# Altium footprint library SmartHalo_Footprints.PcbLib: 114 footprints (part 5 of 8)
Each footprint in its own frame and in the unit in brackets; x right, y up, seen from the top. Pads: shape width x height; smd on the part's side, far side on the other; paste and mask are expansions set on the pad; w line width, h text height; cw(c..) or ccw(c..) is an arc to the next point about the centre after c.
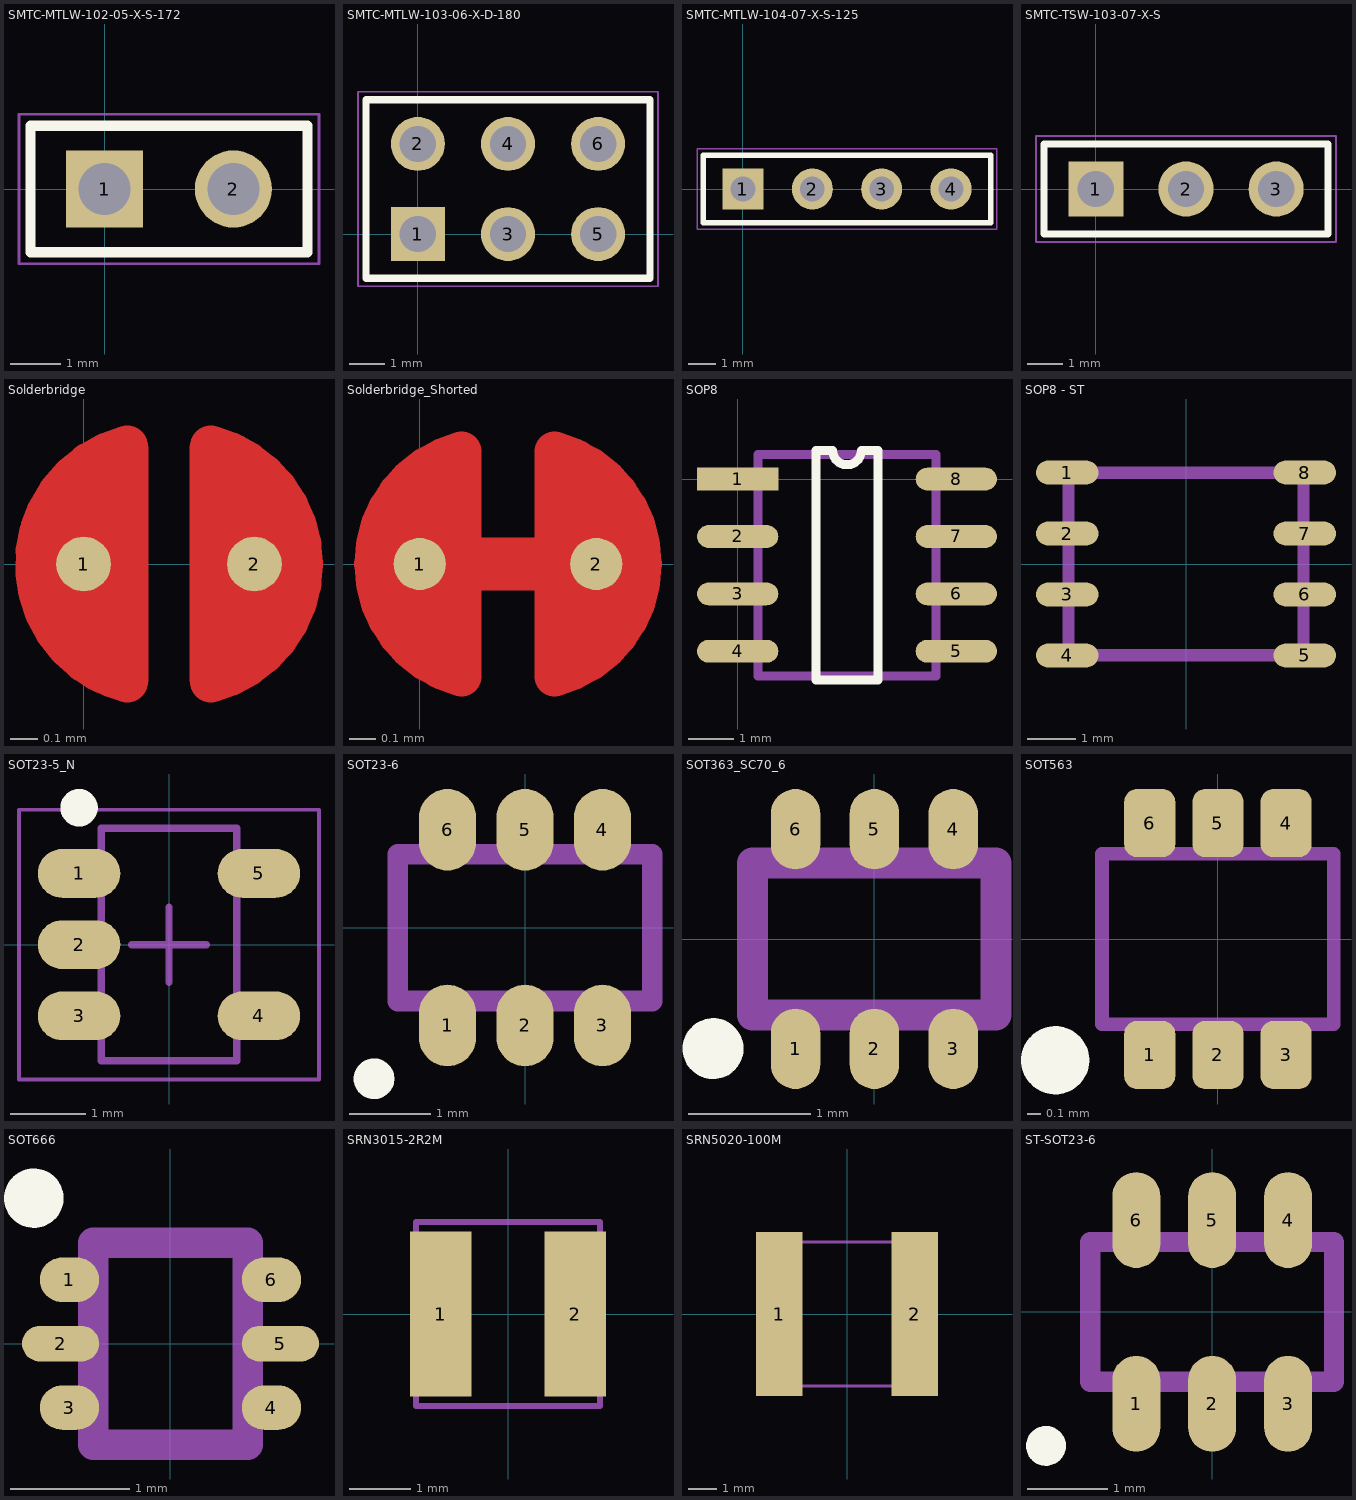
[diagram p4: the footprints below, top view; thin cyan lines are the x and y axes]

## SMTC-MTLW-102-05-X-S-172 [mm] "Terminal Assembly, 1x2 Pins, Vertical, 2.54mm Pitch, Male"
pads (2):
  rect 1.52x1.52 hole 1.02: 1(0,0)
  round 1.52 hole 1.02: 2(2.54,0)
Top Overlay:
  lines w0.2: -1.46,-1.245 -1.46,1.245 4,1.245 4,-1.245 -1.46,-1.245
3D Top:
  lines w0.1: -1.46,1.245 -1.46,-1.245 4,-1.245 4,1.245 -1.46,1.245
Courtyard Top:
  lines w0.05: -1.685,-1.47 -1.685,1.47 4.225,1.47 4.225,-1.47 -1.685,-1.47

## SMTC-MTLW-103-06-X-D-180 [mm] "Terminal Assembly, 2x3 Pins, Vertical, 2.54mm Pitch, Male"
pads (6):
  rect 1.52x1.52 hole 1.02: 1(0,0)
  round 1.52 hole 1.02: 2(0,2.54) 3(2.54,0) 4(2.54,2.54) 5(5.08,0) 6(5.08,2.54)
Top Overlay:
  lines w0.2: -1.46,-1.245 -1.46,3.785 6.54,3.785 6.54,-1.245 -1.46,-1.245
3D Top:
  lines w0.1: -1.46,-1.245 6.54,-1.245 6.54,3.785 -1.46,3.785 -1.46,-1.245
Courtyard Top:
  lines w0.05: -1.685,-1.47 6.765,-1.47 6.765,4.01 -1.685,4.01 -1.685,-1.47

## SMTC-MTLW-104-07-X-S-125 [mm] "Terminal Assembly, 1x4 Pins, Vertical, 2.54mm Pitch, Male"
height 4.826
pads (4):
  rect 1.5x1.5 hole 0.9: 1(0,0)
  round 1.5 hole 0.9: 2(2.54,0) 3(5.08,0) 4(7.62,0)
Top Overlay:
  lines w0.2: -1.46,-1.245 -1.46,1.245 9.08,1.245 9.08,-1.245 -1.46,-1.245
3D Top:
  lines w0.1: -1.46,-1.245 -1.46,1.245 9.08,1.245 9.08,-1.245 -1.46,-1.245
Courtyard Top:
  lines w0.05: -1.685,-1.47 -1.685,1.47 9.305,1.47 9.305,-1.47 -1.685,-1.47
3D body: height 4.7, standoff -6.22, extent -1.27,-1.244 8.89,1.245

## SMTC-TSW-103-07-X-S [mm] ".025 SQ Post Terminal Strip Assembly, 1x3 Pins, Vertical, 2.54mm Pitch, Male"
pads (3):
  rect 1.55x1.55 hole 1.02: 1(0,0)
  round 1.55 hole 1.02: 2(2.54,0) 3(5.08,0)
Top Overlay:
  lines w0.2: -1.46,-1.27 -1.46,1.27 6.54,1.27 6.54,-1.27 -1.46,-1.27
3D Top:
  lines w0.1: -1.46,-1.27 -1.46,1.27 6.54,1.27 6.54,-1.27 -1.46,-1.27
Courtyard Top:
  lines w0.05: -1.685,-1.495 -1.685,1.495 6.765,1.495 6.765,-1.495 -1.685,-1.495

## Solderbridge [mm]
pads (2):
  round 0.2 smd paste-10: 1(0,0) 2(0.625,0)
Top Layer:
  region: 0.389,0.432 0.465,0.505 0.583,0.467 0.648,0.424 0.721,0.351 0.775,0.292 0.833,0.193 0.861,0.099 0.856,-0.122 0.831,-0.193 0.747,-0.33 0.663,-0.411 0.571,-0.469 0.47,-0.5 0.419,-0.483 0.389,-0.43
  region: 0.236,-0.432 0.16,-0.505 0.042,-0.467 -0.023,-0.424 -0.097,-0.351 -0.15,-0.292 -0.208,-0.193 -0.236,-0.099 -0.231,0.122 -0.206,0.193 -0.122,0.33 -0.038,0.411 0.054,0.469 0.155,0.5 0.206,0.483 0.236,0.43
  lines w0.152: 0.159,-0.431 cw(c0.27,0) 0.004,-0.356 cw(c0.27,0) 0.159,0.431 ; 0.465,-0.431 ccw(c0.355,0) 0.799,0 ccw(c0.355,0) 0.465,0.431
Top Solder:
  circle w0.61: c0.31,0 r0.279

## Solderbridge_Shorted [mm]
pads (2):
  round 0.2 smd paste-10: 1(0,0) 2(0.676,0)
Top Layer:
  region: 0.44,0.432 0.516,0.505 0.634,0.467 0.699,0.424 0.772,0.351 0.826,0.292 0.884,0.193 0.912,0.099 0.907,-0.122 0.881,-0.193 0.798,-0.33 0.714,-0.411 0.622,-0.469 0.521,-0.5 0.47,-0.483 0.44,-0.43
  region: 0.236,-0.432 0.16,-0.505 0.042,-0.467 -0.023,-0.424 -0.097,-0.351 -0.15,-0.292 -0.208,-0.193 -0.236,-0.099 -0.231,0.122 -0.206,0.193 -0.122,0.33 -0.038,0.411 0.054,0.469 0.155,0.5 0.206,0.483 0.236,0.43
  lines w0.152: 0.159,-0.431 cw(c0.27,0) 0.159,0.431 ; 0.516,-0.431 ccw(c0.406,0) 0.516,0.431
  lines w0.203: 0,0 0.676,0
Top Solder:
  circle w0.61: c0.31,0 r0.279
  circle w0.61: c0.366,0 r0.279

## SOP8 [mm]
pads (8):
  rect 1.8x0.506 smd: 1(0,0)
  oval 1.8x0.506 smd: 2(0,-1.27) 3(0,-2.54) 4(0,-3.81) 5(4.84,-3.81) 6(4.84,-2.54) 7(4.84,-1.27) 8(4.84,0)
Top Overlay:
  lines w0.2: 1.735,-4.445 1.735,0.635 2.103,0.635 ccw(c2.42,0.635) 2.738,0.635 3.105,0.635 3.105,-4.445 1.735,-4.445
3D Top:
  lines w0.2: 0.45,-4.355 4.39,-4.355 4.39,0.545 0.45,0.545 0.45,-4.355
3D body: height 1.65, standoff 0, extent 0.45,-4.355 4.39,0.545

## SOP8 - ST [mm] "SOP8, 3.9 x 4.9 x 1.75 mm body, 1.27mm x 4.95 mm pitch"
height 1.75
pads (8):
  oval 1.3x0.5 smd: 1(-2.475,1.905) 2(-2.475,0.635) 3(-2.475,-0.635) 4(-2.475,-1.905) 5(2.475,-1.905) 6(2.475,-0.635) 7(2.475,0.635) 8(2.475,1.905)
3D Top:
  lines w0.254: -2.45,-1.9 -2.45,1.9 2.45,1.9 2.45,-1.9 -2.45,-1.9
3D body: height 1.75, standoff 0, extent -2.45,-1.9 2.45,1.9

## SOT23-5_N [mm] "SOT23, 5-Leads, Body 2.9x1.6mm, Pitch 0.95mm, Lead Span 2.8mm, IPC Medium Density"
height 1.4
pads (5):
  oval 1.1x0.65 smd: 1(-1.2,0.95) 2(-1.2,0) 3(-1.2,-0.95) 4(1.2,-0.95) 5(1.2,0.95)
Top Overlay:
  circle w0.25: c-1.2,1.825 r0.125
3D Top:
  lines w0.1: -0.9,-1.55 -0.9,1.55 0.9,1.55 0.9,-1.55 -0.9,-1.55
Courtyard Top:
  lines w0.05: -2,-1.8 -2,1.8 2,1.8 2,-1.8 -2,-1.8
  lines w0.1: -0.5,0 0.5,0 ; 0,-0.5 0,0.5
3D body: height 1.4, standoff 0, extent -0.9,-1.55 0.9,1.55

## SOT23-6 [mm] "SOT23-6 pins, 2.92 x 1.6 mm body, 0.7mm x 1mm pads, 0.95 x 2.4 mm pitch"
height 1.35
pads (6):
  oval 0.7x1 smd mask+0.051: 1(-0.95,-1.2) 2(0,-1.2) 3(0.95,-1.2) 4(0.95,1.2) 5(0,1.2) 6(-0.95,1.2)
Top Overlay:
  circle w0.25: c-1.852,-1.854 r0.125
3D Top:
  lines w0.254: -1.56,-0.9 1.56,-0.9 1.56,0.9 -1.56,0.9 -1.56,-0.9
3D body: height 1.35, standoff 0.1, extent -1.56,-0.9 1.56,0.9

## SOT363_SC70_6 [mil] "SOT363-6, SC70, 2 x 1.25 x 1 mm body, 16 x 26 mils pads, 26 x 71 mils pitch"
height 39.37
pads (6):
  oval 16x26 smd mask+2: 1(-25.5,-35.5) 2(0,-35.5) 3(25.5,-35.5) 4(25.5,35.5) 5(0,35.5) 6(-25.5,35.5)
Top Overlay:
  circle w9.84: c-52.17,-35.43 r4.92
3D Top:
  lines w10: -39.37,-24.61 39.37,-24.61 39.37,24.61 -39.37,24.61 -39.37,-24.61
3D body: height 39.37, standoff 0, extent -39.37,-24.61 39.37,24.61

## SOT563 [mm] "SOT563, 1.25 x 1.7 mm body, 6 pins, 0.375 x 0.5 mm pads, 0.5 x 1.7 mm pitch"
height 0.6
pads (6):
  rrect50% 0.375x0.5 smd mask+0: 1(-0.5,-0.85) 2(0,-0.85) 3(0.5,-0.85) 4(0.5,0.85) 5(0,0.85) 6(-0.5,0.85)
Top Overlay:
  circle w0.25: c-1.194,-0.889 r0.125
3D Top:
  lines w0.1: -0.85,-0.625 -0.85,0.625 0.85,0.625 0.85,-0.625 -0.85,-0.625
3D body: height 0.6, standoff 0, extent -0.85,-0.625 0.85,0.625

## SOT666 [mm] "SOT666, 1.3 x 1.7 x 0.6 mm body, 0.375 x 0.5 mm pads, 1.6 x 0.538 mm pitch"
height 0.6
pads (6):
  oval 0.5x0.375 smd mask+0.046: 1(-0.85,0.538) 3(-0.85,-0.538) 4(0.85,-0.538) 6(0.85,0.538)
  oval 0.65x0.3 smd mask+0.046: 2(-0.925,0) 5(0.925,0)
Top Overlay:
  circle w0.25: c-1.15,1.225 r0.125
3D Top:
  lines w0.254: -0.65,-0.85 0.65,-0.85 0.65,0.85 -0.65,0.85 -0.65,-0.85
3D body: height 0.6, standoff 0, extent -0.65,-0.85 0.65,0.85

## SRN3015-2R2M [mm] "Inductor, 3.0 x 3.0 x 1.5 mm, 1.0 x 2.7 pads, 2.2 mm pitch"
height 1.5
pads (2):
  rect 1x2.7 smd: 1(-1.1,0) 2(1.1,0)
3D Top:
  lines w0.1: -1.5,-1.5 1.5,-1.5 1.5,1.5 -1.5,1.5 -1.5,-1.5
3D body: height 1.5, standoff 0, extent -1.5,-1.5 1.5,1.5

## SRN5020-100M [mm] "Inductor SRN5020-100M, 10 uH, 5.0 x 5.0 mm x 2.0 body, 1.6 x 5.7 mm pad, 4.7 mm pitch"
height 2
pads (2):
  rect 1.6x5.7 smd: 1(-2.35,0) 2(2.35,0)
3D Top:
  lines w0.1: -2.5,-2.5 -2.5,2.5 2.5,2.5 2.5,-2.5 -2.5,-2.5
3D body: height 2, standoff 0, extent -2.5,-2.5 2.5,2.5

## ST-SOT23-6 [mm] "ST SOT23-6 pins, 3.05 x 1.75 mm body, 0.6mm x 1.2mm pads, 0.95 x 2.3 mm pitch"
height 1.45
pads (6):
  oval 0.6x1.2 smd mask+0.051: 1(-0.95,-1.15) 2(0,-1.15) 3(0.95,-1.15) 4(0.95,1.15) 5(0,1.15) 6(-0.95,1.15)
Top Overlay:
  circle w0.25: c-2.081,-1.676 r0.125
3D Top:
  lines w0.254: -1.525,-0.875 -1.525,0.875 1.525,0.875 1.525,-0.875 -1.525,-0.875
3D body: height 1.35, standoff 0.1, extent -1.56,-0.9 1.56,0.9